# Altium schematic symbol library MFL COMPASS ANTENNA.Schlib: 1 symbol
Pins are listed as number, name and electrical type; pins without a type are passive.

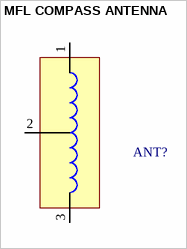
[diagram p0: symbol MFL COMPASS ANTENNA]

## MFL COMPASS ANTENNA
designator ANT?
pins: 1, 2, 3